# Altium schematic symbol library resistors.SchLib: 30 symbols
Pins are listed as number, name and electrical type; pins without a type are passive.

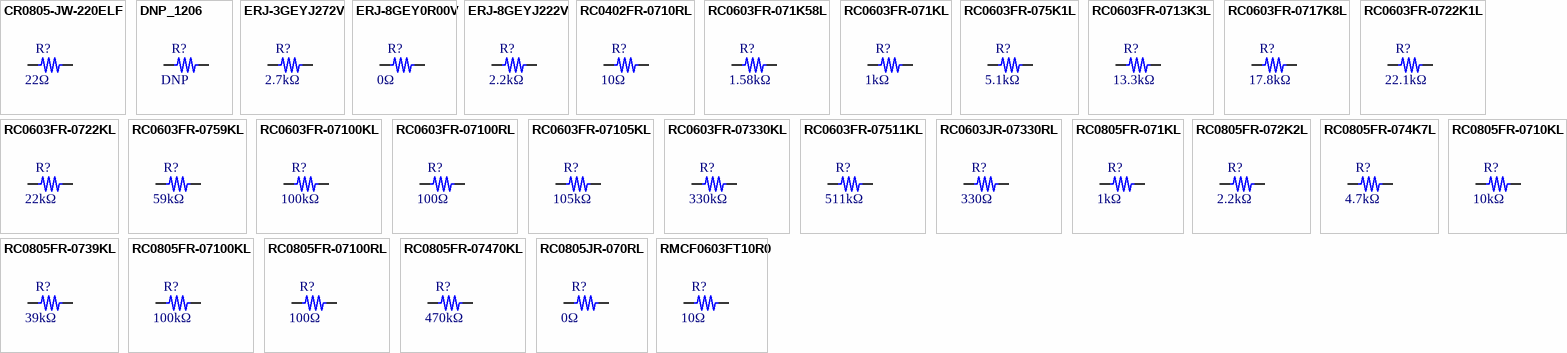
[diagram p0: symbols CR0805-JW-220ELF to RMCF0603FT10R0]

## CR0805-JW-220ELF
designator R?  value 22Ω  (hidden comment: *)
Res Thick Film 0805 22 Ohm 5% 1/8W ±200ppm/°C Molded SMD SMD Paper Tape on Plastic Reel; Manufacturer: Bourns Inc.; Manufacturer Part Number: CR0805-JW-220ELF; Supplier: DigiKey; Supplier Part Number: 118-CR0805-JW-220ELFCT-ND; Package/Case: 0805 (2012 Metric)
footprint RESC2012 (SMD 0805 (2012 Metric))
pins: 1, 2

## DNP_1206
designator R?  value DNP  (hidden comment: *)  (no BOM)
Do Not Populate 1206 (3216 Metric)
footprint RESC3216 (SMD 1206 (3216 Metric))
pins: 1, 2

## ERJ-3GEYJ272V
designator R?  value 2.7kΩ  (hidden comment: *)
Res Thick Film 0603 2.7K Ohm 5% 0.1W(1/10W) ±200ppm/C Pad SMD T/R Automotive AEC-Q200; Manufacturer: Panasonic Industry; Manufacturer Part Number: ERJ-3GEYJ272V; Supplier: DigiKey; Supplier Part Number: P2.7KGCT-ND; Package/Case: 0603 (1608 Metric)
footprint RESC1608 (SMD 0603 (1608 Metric))
pins: 1, 2

## ERJ-8GEY0R00V
designator R?  value 0Ω  (hidden comment: *)
ERJ Series 1206 0 Ohm 0.25 W Jumper Surface Mount Thick Film Chip Resistor; Manufacturer: Panasonic Industry; Manufacturer Part Number: ERJ-8GEY0R00V; Supplier: DigiKey; Supplier Part Number: P0.0ECT-ND; Package/Case: 1206 (3216 Metric)
footprint RESC3216 (SMD 1206 (3216 Metric))
pins: 1, 2

## ERJ-8GEYJ222V
designator R?  value 2.2kΩ  (hidden comment: *)
Res Thick Film 1206 2.2K Ohm 5% 1/4W ±200ppm/°C Molded SMD Punched Carrier T/R; Manufacturer: Panasonic Industry; Manufacturer Part Number: ERJ-8GEYJ222V; Supplier: DigiKey; Supplier Part Number: P2.2KECT-ND; Package/Case: 1206 (3216 Metric)
footprint RESC3216 (SMD 1206 (3216 Metric))
pins: 1, 2

## RC0402FR-0710RL
designator R?  value 10Ω  (hidden comment: *)
Res Thick Film 0402 10 Ohm 1% 0.063W(1/16W) ±200ppm/C Pad SMD T/R; Manufacturer: Yageo Group; Manufacturer Part Number: RC0402FR-0710RL; Supplier: DigiKey; Supplier Part Number: 311-10.0LRCT-ND; Package/Case: 0402 (1005 Metric)
footprint RESC1005 (SMD 0402 (1005 Metric))
pins: 1, 2

## RC0603FR-071K58L
designator R?  value 1.58kΩ  (hidden comment: *)
Res Thick Film 0603 1.58K Ohm 1% 0.1W(1/10W) ±100ppm/C Pad SMD T/R; Manufacturer: Yageo Group; Manufacturer Part Number: RC0603FR-071K58L; Supplier: DigiKey; Supplier Part Number: 311-1.58KHRCT-ND; Package/Case: 0603 (1608 Metric)
footprint RESC1608 (SMD 0603 (1608 Metric))
pins: 1, 2

## RC0603FR-071KL
designator R?  value 1kΩ  (hidden comment: *)
100mW Thick Film Resistors 75V ±100ppm/℃ ±1% 1kΩ 0603 Chip Resistor - Surface Mount ROHS; Manufacturer: Yageo Group; Manufacturer Part Number: RC0603FR-071KL; Supplier: DigiKey; Supplier Part Number: 311-330GRCT-ND; Package/Case: 0603 (1608 Metric)
footprint RESC1608 (SMD 0603 (1608 Metric))
pins: 1, 2

## RC0603FR-075K1L
designator R?  value 5.1kΩ  (hidden comment: *)
Res Thick Film 0603 5.1K Ohm 1% 0.1W(1/10W) ±100ppm/C Pad SMD T/R; Manufacturer: YAGEO; Manufacturer Part Number: RC0603FR-075K1L; Supplier: DigiKey; Supplier Part Number: 311-5.10KHRCT-ND; Package/Case: 0603 (1608 Metric)
footprint RESC1608 (SMD 0603 (1608 Metric))
pins: 1, 2

## RC0603FR-0713K3L
designator R?  value 13.3kΩ  (hidden comment: *)
100mW Thick Film Resistors 75V ±100ppm/℃ ±1% 13.3kΩ 0603 Chip Resistor - Surface Mount ROHS; Manufacturer: Yageo Group; Manufacturer Part Number: RC0603FR-0713K3L; Supplier: DigiKey; Supplier Part Number: 311-13.3KHRCT-ND; Package/Case: 0603 (1608 Metric)
footprint RESC1608 (SMD 0603 (1608 Metric))
pins: 1, 2

## RC0603FR-0717K8L
designator R?  value 17.8kΩ  (hidden comment: *)
Res Thick Film 0603 17.8K Ohm 1% 0.1W(1/10W) ±100ppm/C Pad SMD T/R; Manufacturer: Yageo Group; Manufacturer Part Number: RC0603FR-0717K8L; Supplier: DigiKey; Supplier Part Number: 311-17.8KHRCT-ND; Package/Case: 0603 (1608 Metric)
footprint RESC1608 (SMD 0603 (1608 Metric))
pins: 1, 2

## RC0603FR-0722K1L
designator R?  value 22.1kΩ  (hidden comment: *)
Res General Purpose Thick Film 0603 22.1K Ohm 1% 1/10W ±100ppm/°C Molded SMD Paper T/R; Manufacturer: Yageo Group; Manufacturer Part Number: RC0603FR-0722K1L; Supplier: DigiKey; Supplier Part Number: 311-22.1KHRCT-ND; Package/Case: 0603 (1608 Metric)
footprint RESC1608 (SMD 0603 (1608 Metric))
pins: 1, 2

## RC0603FR-0722KL
designator R?  value 22kΩ  (hidden comment: *)
Res Thick Film 0603 22K Ohm 1% 0.1W(1/10W) ±100ppm/C Pad SMD T/R; Manufacturer: Yageo Group; Manufacturer Part Number: RC0603FR-0722KL; Supplier: DigiKey; Supplier Part Number: 311-22.0KHRCT-ND; Package/Case: 0603 (1608 Metric)
footprint RESC1608 (SMD 0603 (1608 Metric))
pins: 1, 2

## RC0603FR-0759KL
designator R?  value 59kΩ  (hidden comment: *)
100mW Thick Film Resistors 75V ±100ppm/℃ ±1% 59kΩ 0603 Chip Resistor - Surface Mount ROHS; Manufacturer: Yageo Group; Manufacturer Part Number: RC0603FR-0759KL; Supplier: DigiKey; Supplier Part Number: 311-59.0KHRCT-ND; Package/Case: 0603 (1608 Metric)
footprint RESC1608 (SMD 0603 (1608 Metric))
pins: 1, 2

## RC0603FR-07100KL
designator R?  value 100kΩ  (hidden comment: *)
Res General Purpose Thick Film 0603 100k Ohm 1% 1/10W ±100ppm/°C Molded Paper T/R; Manufacturer: Yageo Group; Manufacturer Part Number: RC0603FR-07100KL; Supplier: DigiKey; Supplier Part Number: 311-100KHRCT-ND; Package/Case: 0603 (1608 Metric)
footprint RESC1608 (SMD 0603 (1608 Metric))
pins: 1, 2

## RC0603FR-07100RL
designator R?  value 100Ω  (hidden comment: *)
Res Thick Film 0603 100 Ohm 1% 1/10W ±100ppm/°C Molded SMD Paper T/R; Manufacturer: Yageo Group; Manufacturer Part Number: RC0603FR-07100RL; Supplier: DigiKey; Supplier Part Number: 311-100HRCT-ND; Package/Case: 0603 (1608 Metric)
footprint RESC1608 (SMD 0603 (1608 Metric))
pins: 1, 2

## RC0603FR-07105KL
designator R?  value 105kΩ  (hidden comment: *)
100mW Thick Film Resistors 75V ±100ppm/℃ ±1% 105kΩ 0603 Chip Resistor - Surface Mount ROHS; Manufacturer: Yageo Group; Manufacturer Part Number: RC0603FR-07105KL; Supplier: DigiKey; Supplier Part Number: 311-105KHRCT-ND; Package/Case: 0603 (1608 Metric)
footprint RESC1608 (SMD 0603 (1608 Metric))
pins: 1, 2

## RC0603FR-07330KL
designator R?  value 330kΩ  (hidden comment: *)
Res Thick Film 0603 330K Ohm 1% 0.1W(1/10W) ±100ppm/C Pad SMD T/R; Manufacturer: Yageo Group; Manufacturer Part Number: RC0603FR-07330KL; Supplier: DigiKey; Supplier Part Number: 311-330KHRCT-ND; Package/Case: 0603 (1608 Metric)
footprint RESC1608 (SMD 0603 (1608 Metric))
pins: 1, 2

## RC0603FR-07511KL
designator R?  value 511kΩ  (hidden comment: *)
100mW Thick Film Resistors 75V ±100ppm/℃ ±1% 511kΩ 0603 Chip Resistor - Surface Mount ROHS; Manufacturer: Yageo Group; Manufacturer Part Number: RC0603FR-07511KL; Supplier: DigiKey; Supplier Part Number: 311-511KHRCT-ND; Package/Case: 0603 (1608 Metric)
footprint RESC1608 (SMD 0603 (1608 Metric))
pins: 1, 2

## RC0603JR-07330RL
designator R?  value 330Ω  (hidden comment: *)
Res Thick Film 0603 330 Ohm 5% 0.1W(1/10W) ±100ppm/C Epoxy SMD T/R; Manufacturer: Yageo Group; Manufacturer Part Number: RC0603JR-07330RL; Supplier: DigiKey; Supplier Part Number: 311-330GRCT-ND; Package/Case: 0603 (1608 Metric)
footprint RESC1608 (SMD 0603 (1608 Metric))
pins: 1, 2

## RC0805FR-071KL
designator R?  value 1kΩ  (hidden comment: *)
125Mw Thick Film Resistors 100Ppm/ 1% 4.7K 0805 Chip Resistor Surface Mount Rohs; Manufacturer: YAGEO; Manufacturer Part Number: RC0805FR-071KL; Supplier: DigiKey; Supplier Part Number: 311-1.00KCRCT-ND; Package/Case: 0805 (2012 Metric)
footprint RESC2012 (SMD 0805 (2012 Metric))
pins: 1, 2

## RC0805FR-072K2L
designator R?  value 2.2kΩ  (hidden comment: *)
125Mw Thick Film Resistors 100Ppm/ 1% 2.2K 0805 Chip Resistor Surface Mount Rohs; Manufacturer: YAGEO; Manufacturer Part Number: RC0805FR-072K2L; Supplier: DigiKey; Supplier Part Number: 311-2.20KCRCT-ND; Package/Case: 0805 (2012 Metric)
footprint RESC2012 (SMD 0805 (2012 Metric))
pins: 1, 2

## RC0805FR-074K7L
designator R?  value 4.7kΩ  (hidden comment: *)
125Mw Thick Film Resistors 100Ppm/ 1% 4.7K 0805 Chip Resistor Surface Mount Rohs; Manufacturer: YAGEO; Manufacturer Part Number: RC0805FR-074K7L; Supplier: DigiKey; Supplier Part Number: 311-4.70KCRCT-ND; Package/Case: 0805 (2012 Metric)
footprint RESC2012 (SMD 0805 (2012 Metric))
pins: 1, 2

## RC0805FR-0710KL
designator R?  value 10kΩ  (hidden comment: *)
Res Thick Film 0805 10K Ohm 1% 0.125W(1/8W) +/-100ppm/C Epoxy Pad SMD T/R; Manufacturer: YAGEO; Manufacturer Part Number: RC0805FR-0710KL; Supplier: DigiKey; Supplier Part Number: 311-10.0KCRCT-ND; Package/Case: 0805 (2012 Metric)
footprint RESC2012 (SMD 0805 (2012 Metric))
pins: 1, 2

## RC0805FR-0739KL
designator R?  value 39kΩ  (hidden comment: *)
Res Thick Film 0805 39K Ohm 1% 0.125W(1/8W) ±100ppm/C Pad SMD T/R; Manufacturer: YAGEO; Manufacturer Part Number: RC0805FR-0739KL; Supplier: DigiKey; Supplier Part Number: 311-39.0KCRCT-ND; Package/Case: 0805 (2012 Metric)
footprint RESC2012 (SMD 0805 (2012 Metric))
pins: 1, 2

## RC0805FR-07100KL
designator R?  value 100kΩ  (hidden comment: *)
125Mw Thick Film Resistors 100Ppm/ 1% 100K 0805 Chip Resistor Surface Mount Rohs; Manufacturer: YAGEO; Manufacturer Part Number: RC0805FR-07100KL; Supplier: DigiKey; Supplier Part Number: 311-100KCRCT-ND; Package/Case: 0805 (2012 Metric)
footprint RESC2012 (SMD 0805 (2012 Metric))
pins: 1, 2

## RC0805FR-07100RL
designator R?  value 100Ω  (hidden comment: *)
125Mw Thick Film Resistors 100Ppm/ 1% 100 0805 Chip Resistor Surface Mount Rohs; Manufacturer: YAGEO; Manufacturer Part Number: RC0805FR-07100RL; Supplier: DigiKey; Supplier Part Number: 311-100CRCT-ND; Package/Case: 0805 (2012 Metric)
footprint RESC2012 (SMD 0805 (2012 Metric))
pins: 1, 2

## RC0805FR-07470KL
designator R?  value 470kΩ  (hidden comment: *)
125Mw Thick Film Resistors 100Ppm/ 1% 4.7K 0805 Chip Resistor Surface Mount Rohs; Manufacturer: YAGEO; Manufacturer Part Number: RC0805FR-07470KL; Supplier: DigiKey; Supplier Part Number: 311-470KCRCT-ND; Package/Case: 0805 (2012 Metric)
footprint RESC2012 (SMD 0805 (2012 Metric))
pins: 1, 2

## RC0805JR-070RL
designator R?  value 0Ω  (hidden comment: *)
GENERAL PURPOSE CHIP RESISTOR Metal Glaze/thick Film, 0.125W, 0ohm, Surface Mount, 0805; Manufacturer: YAGEO; Manufacturer Part Number: RC0805JR-070RL; Supplier: DigiKey; Supplier Part Number: 311-0.0ARCT-ND; Package/Case: 0805 (2012 Metric)
footprint RESC2012 (SMD 0805 (2012 Metric))
pins: 1, 2

## RMCF0603FT10R0
designator R?  value 10Ω  (hidden comment: *)
Res Thick Film 0603 10 Ohm 1% 0.1W(1/10W) ±100ppm/C Pad SMD T/R Automotive AEC-Q200; Manufacturer: Yageo Group; Manufacturer Part Number: RMCF0603FT10R0; Supplier: DigiKey; Supplier Part Number: RMCF0603FT10R0CT-ND; Package/Case: 0603 (1608 Metric)
footprint RESC1608 (SMD 0603 (1608 Metric))
pins: 1, 2